# Altium schematic symbol library WPME-VDRM.SchLib: 11 symbols
Pins are listed as number, name and electrical type; pins without a type are passive.

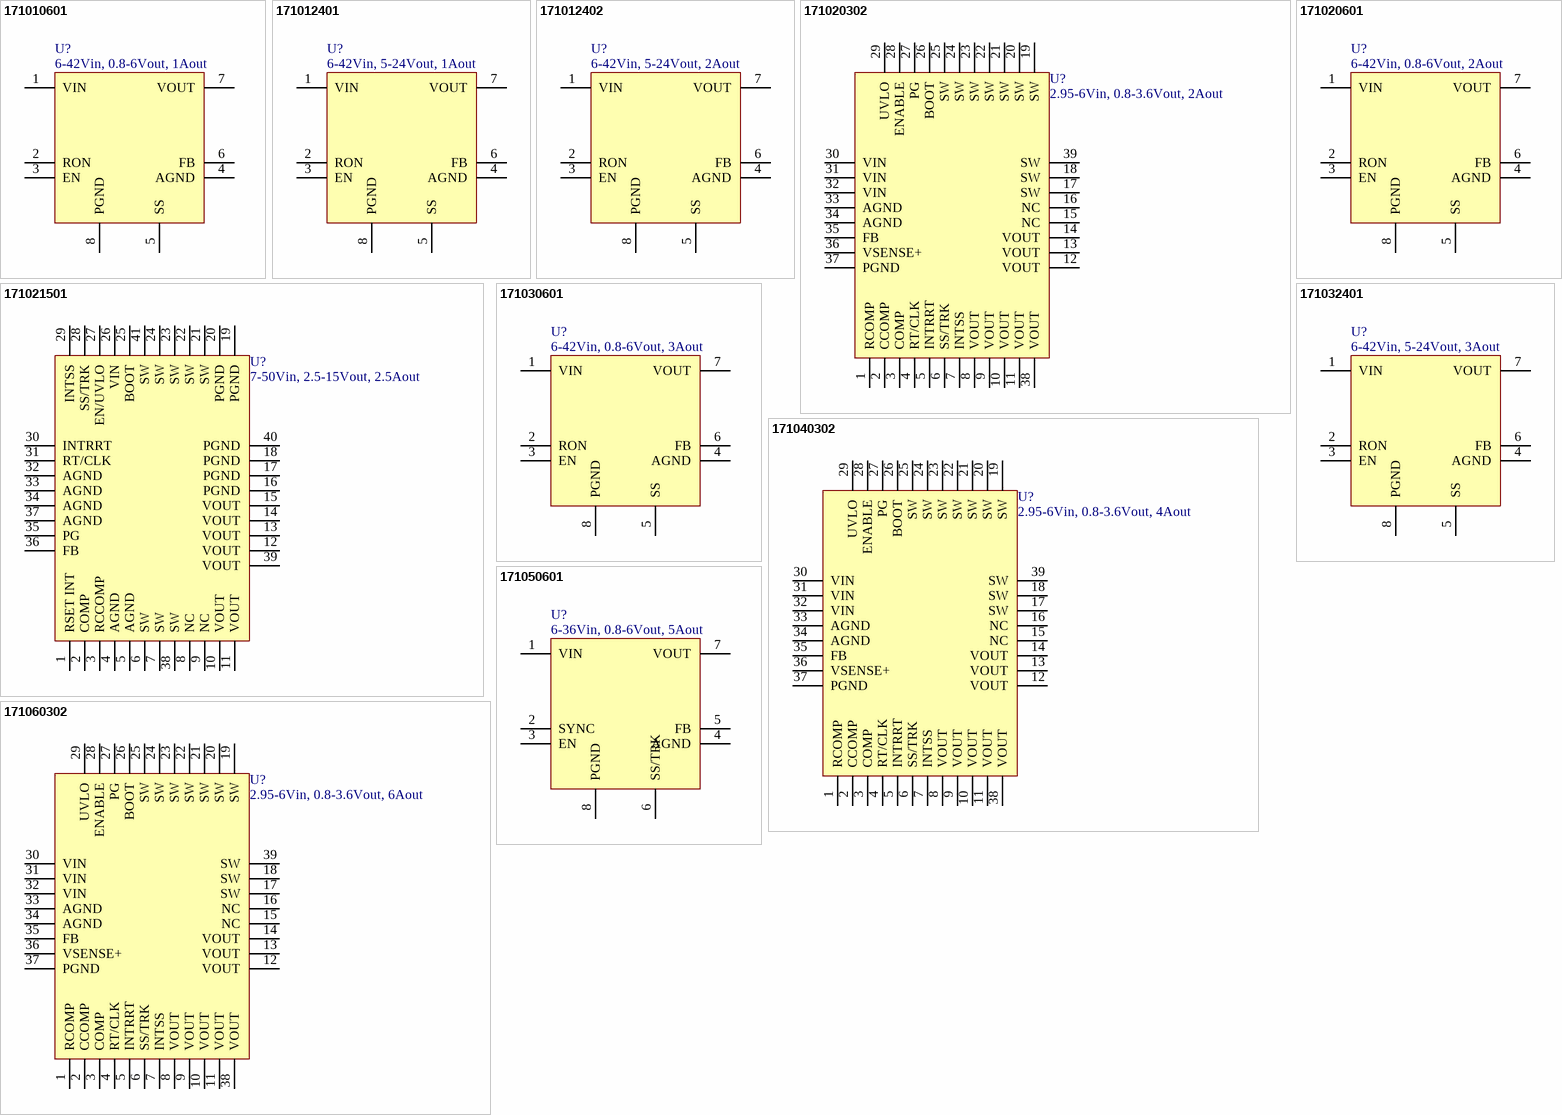
[diagram p0: symbols 171010601 to 171060302]

## 171010601
designator U?, comment 6-42Vin, 0.8-6Vout, 1Aout
WPME-VDRM Variable Step Down Regulator Module, SMT, TO263-7EP, 6-42Vin, 0.8-6Vout, 1Aout; Manufacturer Part Number: 171010601; Manufacturer: Wurth Elektronik; Input Voltage Min: 6V; Input Voltage Max: 42V; Output Current: 1A; Output Voltage Min: 0.8V; Category: Step Down Converter; Match Code: WPME-VDRM; ComponentLink1Description: Website Link; ComponentLink1URL: https://www.we-online.com/redexpert/article/171010601?ad; ComponentLink2Description: Datasheet Link; ComponentLink2URL: https://www.we-online.com/redexpert/spec/171010601?ad; Mount: Surface Mount; Min Operating Temperature: -40°C; Max Operating Temperature: 125°C; Packaging: Tape and Reel; Case/Size Code: TO263-7EP; Length: 13.77mm; Width: 10.16mm; Height: 4.57mm; Output Voltage Max: 6V
footprint WPME-VDRM_TO263-7EP
pins: 1 VIN, 2 RON, 3 EN, 4 AGND, 5 SS, 6 FB, 7 VOUT, 8 PGND

## 171012401
designator U?, comment 6-42Vin, 5-24Vout, 1Aout
WPME-VDRM Variable Step Down Regulator Module, SMT, TO263-7EP, 6-42Vin, 5-24Vout, 1Aout; Manufacturer Part Number: 171012401; Manufacturer: Wurth Elektronik; Input Voltage Min: 6V; Input Voltage Max: 42V; Output Current: 1A; Output Voltage Min: 5V; Output Voltage Max: 24V; Category: Step Down Converter; Match Code: WPME-VDRM; ComponentLink1Description: Website Link; ComponentLink1URL: https://www.we-online.com/redexpert/article/171012401?ad; ComponentLink2Description: Datasheet Link; ComponentLink2URL: https://www.we-online.com/redexpert/spec/171012401?ad; Mount: Surface Mount; Min Operating Temperature: -40°C; Max Operating Temperature: 125°C; Packaging: Tape and Reel; Case/Size Code: TO263-7EP; Length: 13.77mm; Width: 10.16mm; Height: 4.57mm
footprint WPME-VDRM_TO263-7EP
pins: 1 VIN, 2 RON, 3 EN, 4 AGND, 5 SS, 6 FB, 7 VOUT, 8 PGND

## 171012402
designator U?, comment 6-42Vin, 5-24Vout, 2Aout
WPME-VDRM Variable Step Down Regulator Module, SMT, TO263-7EP, 6-42Vin, 5-24Vout, 2Aout; Manufacturer Part Number: 171012402; Manufacturer: Wurth Elektronik; Input Voltage Min: 6V; Input Voltage Max: 42V; Output Current: 2A; Output Voltage Min: 5V; Output Voltage Max: 24V; Category: Step Down Converter; Match Code: WPME-VDRM; ComponentLink1Description: Website Link; ComponentLink1URL: https://www.we-online.com/redexpert/article/171012402?ad; ComponentLink2Description: Datasheet Link; ComponentLink2URL: https://www.we-online.com/redexpert/spec/171012402?ad; Mount: Surface Mount; Min Operating Temperature: -40°C; Max Operating Temperature: 125°C; Packaging: Tape and Reel; Case/Size Code: TO263-7EP; Length: 13.77mm; Width: 10.16mm; Height: 4.57mm
footprint WPME-VDRM_TO263-7EP
pins: 1 VIN, 2 RON, 3 EN, 4 AGND, 5 SS, 6 FB, 7 VOUT, 8 PGND

## 171020302
designator U?, comment 2.95-6Vin, 0.8-3.6Vout, 2Aout
WPME-VDRM Variable Step Down Regulator Module, SMT, BQFN-39, 2.95-6Vin, 0.8-3.6Vout, 2Aout; Manufacturer Part Number: 171020302; Manufacturer: Wurth Elektronik; Input Voltage Min: 2.95V; Input Voltage Max: 6V; Output Current: 2A; Output Voltage Min: 0.8V; Output Voltage Max: 3.6V; Category: Step Down Converter; Match Code: WPME-VDRM; ComponentLink1Description: Website Link; ComponentLink1URL: https://www.we-online.com/redexpert/article/171020302?ad; ComponentLink2Description: Datasheet Link; ComponentLink2URL: https://www.we-online.com/redexpert/spec/171020302?ad; Mount: Surface Mount; Min Operating Temperature: -40°C; Max Operating Temperature: 125°C; Packaging: Tape and Reel; Case/Size Code: BQFN-39; Length: 11mm; Width: 9mm; Height: 2.85mm
footprint WPME-VDRM_BQFN-39
pins: 1 RCOMP, 2 CCOMP, 3 COMP, 4 RT/CLK, 5 INTRRT, 6 SS/TRK, 7 INTSS, 8 VOUT, 9 VOUT, 10 VOUT, 11 VOUT, 12 VOUT, 13 VOUT, 14 VOUT, 15 NC, 16 NC, 17 SW, 18 SW, 19 SW, 20 SW, 21 SW, 22 SW, 23 SW, 24 SW, 25 SW, 26 BOOT, 27 PG, 28 ENABLE, 29 UVLO, 30 VIN, 31 VIN, 32 VIN, 33 AGND, 34 AGND, 35 FB, 36 VSENSE+, 37 PGND, 38 VOUT, 39 SW

## 171020601
designator U?, comment 6-42Vin, 0.8-6Vout, 2Aout
WPME-VDRM Variable Step Down Regulator Module, SMT, TO263-7EP, 6-42Vin, 0.8-6Vout, 2Aout; Manufacturer Part Number: 171020601; Manufacturer: Wurth Elektronik; Input Voltage Min: 6V; Input Voltage Max: 42V; Output Current: 2A; Output Voltage Min: 0.8V; Category: Step Down Converter; Match Code: WPME-VDRM; ComponentLink1Description: Website Link; ComponentLink1URL: https://www.we-online.com/redexpert/article/171020601?ad; ComponentLink2Description: Datasheet Link; ComponentLink2URL: https://www.we-online.com/redexpert/spec/171020601?ad; Mount: Surface Mount; Min Operating Temperature: -40°C; Max Operating Temperature: 125°C; Packaging: Tape and Reel; Case/Size Code: TO263-7EP; Length: 13.77mm; Width: 10.16mm; Height: 4.57mm; Output Voltage Max: 6V
footprint WPME-VDRM_TO263-7EP
pins: 1 VIN, 2 RON, 3 EN, 4 AGND, 5 SS, 6 FB, 7 VOUT, 8 PGND

## 171021501
designator U?, comment 7-50Vin, 2.5-15Vout, 2.5Aout
WPME-VDRM Variable Step Down Regulator Module, SMT, BQFN-41, 7-50Vin, 2.5-15Vout, 2.5Aout; Manufacturer Part Number: 171021501; Manufacturer: Wurth Elektronik; Input Voltage Min: 7V; Input Voltage Max: 50V; Output Current: 2.5A; Output Voltage Min: 2.5V; Output Voltage Max: 15V; Category: Step Down Converter; Match Code: WPME-VDRM; ComponentLink1Description: Website Link; ComponentLink1URL: https://www.we-online.com/redexpert/article/171021501?ad; ComponentLink2Description: Datasheet Link; ComponentLink2URL: https://www.we-online.com/redexpert/spec/171021501?ad; Mount: Surface Mount; Min Operating Temperature: -40°C; Max Operating Temperature: 125°C; Packaging: Tape and Reel; Case/Size Code: BQFN-41; Length: 11mm; Width: 9mm; Height: 2.8mm
footprint WPME-VDRM_BQFN-41
pins: 1 RSET INT, 2 COMP, 3 RCCOMP, 4 AGND, 5 AGND, 6 SW, 7 SW, 8 NC, 9 NC, 10 VOUT, 11 VOUT, 12 VOUT, 13 VOUT, 14 VOUT, 15 VOUT, 16 PGND, 17 PGND, 18 PGND, 19 PGND, 20 PGND, 21 SW, 22 SW, 23 SW, 24 SW, 25 BOOT, 26 VIN, 27 EN/UVLO, 28 SS/TRK, 29 INTSS, 30 INTRRT, 31 RT/CLK, 32 AGND, 33 AGND, 34 AGND, 35 PG, 36 FB, 37 AGND, 38 SW, 39 VOUT, 40 PGND, 41 SW

## 171030601
designator U?, comment 6-42Vin, 0.8-6Vout, 3Aout
WPME-VDRM Variable Step Down Regulator Module, SMT, TO263-7EP, 6-42Vin, 0.8-6Vout, 3Aout; Manufacturer Part Number: 171030601; Manufacturer: Wurth Elektronik; Input Voltage Min: 6V; Input Voltage Max: 42V; Output Current: 3A; Output Voltage Min: 0.8V; Category: Step Down Converter; Match Code: WPME-VDRM; ComponentLink1Description: Website Link; ComponentLink1URL: https://www.we-online.com/redexpert/article/171030601?ad; ComponentLink2Description: Datasheet Link; ComponentLink2URL: https://www.we-online.com/redexpert/spec/171030601?ad; Mount: Surface Mount; Operating Temperature Min: -40°C; Operating Temperature Max: 125°C; Packaging: Tape and Reel; Case/Size Code: TO263-7EP; Length: 13.77mm; Width: 10.16mm; Height: 4.57mm; Output Voltage Max: 6V
footprint WPME-VDRM_TO263-7EP
pins: 1 VIN, 2 RON, 3 EN, 4 AGND, 5 SS, 6 FB, 7 VOUT, 8 PGND

## 171032401
designator U?, comment 6-42Vin, 5-24Vout, 3Aout
WPME-VDRM Variable Step Down Regulator Module, SMT, TO263-7EP, 6-42Vin, 5-24Vout, 3Aout; Manufacturer Part Number: 171032401; Manufacturer: Wurth Elektronik; Input Voltage Min: 6V; Input Voltage Max: 42V; Output Current: 3A; Output Voltage Min: 5V; Output Voltage Max: 24V; Category: Step Down Converter; Match Code: WPME-VDRM; ComponentLink1Description: Website Link; ComponentLink1URL: https://www.we-online.com/redexpert/article/171032401?ad; ComponentLink2Description: Datasheet Link; ComponentLink2URL: https://www.we-online.com/redexpert/spec/171032401?ad; Mount: Surface Mount; Min Operating Temperature: -40°C; Max Operating Temperature: 125°C; Packaging: Tape and Reel; Case/Size Code: TO263-7EP; Length: 13.77mm; Width: 10.16mm; Height: 4.57mm
footprint WPME-VDRM_TO263-7EP
pins: 1 VIN, 2 RON, 3 EN, 4 AGND, 5 SS, 6 FB, 7 VOUT, 8 PGND

## 171040302
designator U?, comment 2.95-6Vin, 0.8-3.6Vout, 4Aout
WPME-VDRM Variable Step Down Regulator Module, SMT, BQFN-39, 2.95-6Vin, 0.8-3.6Vout, 4Aout; Manufacturer Part Number: 171040302; Manufacturer: Wurth Elektronik; Input Voltage Min: 2.95V; Input Voltage Max: 6V; Output Current: 4A; Output Voltage Min: 0.8V; Output Voltage Max: 3.6V; Category: Step Down Converter; Match Code: WPME-VDRM; ComponentLink1Description: Website Link; ComponentLink1URL: https://www.we-online.com/redexpert/article/171040302?ad; ComponentLink2Description: Datasheet Link; ComponentLink2URL: https://www.we-online.com/redexpert/spec/171040302?ad; Mount: Surface Mount; Min Operating Temperature: -40°C; Max Operating Temperature: 125°C; Packaging: Tape and Reel; Case/Size Code: BQFN-39; Length: 11mm; Width: 9mm; Height: 2.85mm
footprint WPME-VDRM_BQFN-39
pins: 1 RCOMP, 2 CCOMP, 3 COMP, 4 RT/CLK, 5 INTRRT, 6 SS/TRK, 7 INTSS, 8 VOUT, 9 VOUT, 10 VOUT, 11 VOUT, 12 VOUT, 13 VOUT, 14 VOUT, 15 NC, 16 NC, 17 SW, 18 SW, 19 SW, 20 SW, 21 SW, 22 SW, 23 SW, 24 SW, 25 SW, 26 BOOT, 27 PG, 28 ENABLE, 29 UVLO, 30 VIN, 31 VIN, 32 VIN, 33 AGND, 34 AGND, 35 FB, 36 VSENSE+, 37 PGND, 38 VOUT, 39 SW

## 171050601
designator U?, comment 6-36Vin, 0.8-6Vout, 5Aout
WPME-VDRM Variable Step Down Regulator Module, SMT, TO263-7EP, 6-36Vin, 0.8-6Vout, 5Aout; Manufacturer Part Number: 171050601; Manufacturer: Wurth Elektronik; Input Voltage Min: 6V; Input Voltage Max: 36V; Output Current: 5A; Output Voltage Min: 0.8V; Category: Step Down Converter; Match Code: WPME-VDRM; ComponentLink1Description: Website Link; ComponentLink1URL: https://www.we-online.com/redexpert/article/171050601?ad; ComponentLink2Description: Datasheet Link; ComponentLink2URL: https://www.we-online.com/redexpert/spec/171050601?ad; Mount: Surface Mount; Min Operating Temperature: -40°C; Max Operating Temperature: 125°C; Packaging: Tape and Reel; Case/Size Code: TO263-7EP; Length: 13.77mm; Width: 10.16mm; Height: 4.57mm; Output Voltage Max: 6V
footprint WPME-VDRM_TO263-7EP
pins: 1 VIN, 2 SYNC, 3 EN, 4 AGND, 5 FB, 6 SS/TRK, 7 VOUT, 8 PGND

## 171060302
designator U?, comment 2.95-6Vin, 0.8-3.6Vout, 6Aout
WPME-VDRM Variable Step Down Regulator Module, SMT, BQFN-39, 2.95-6Vin, 0.8-3.6Vout, 6Aout; Manufacturer Part Number: 171060302; Manufacturer: Wurth Elektronik; Input Voltage Min: 2.95V; Input Voltage Max: 6V; Output Current: 6A; Output Voltage Min: 0.8V; Output Voltage Max: 3.6V; Category: Step Down Converter; Match Code: WPME-VDRM; ComponentLink1Description: Website Link; ComponentLink1URL: https://www.we-online.com/redexpert/article/171060302?ad; ComponentLink2Description: Datasheet Link; ComponentLink2URL: https://www.we-online.com/redexpert/spec/171060302?ad; Mount: Surface Mount; Min Operating Temperature: -40°C; Max Operating Temperature: 125°C; Packaging: Tape and Reel; Case/Size Code: BQFN-39; Length: 11mm; Width: 9mm; Height: 2.85mm
footprint WPME-VDRM_BQFN-39
pins: 1 RCOMP, 2 CCOMP, 3 COMP, 4 RT/CLK, 5 INTRRT, 6 SS/TRK, 7 INTSS, 8 VOUT, 9 VOUT, 10 VOUT, 11 VOUT, 12 VOUT, 13 VOUT, 14 VOUT, 15 NC, 16 NC, 17 SW, 18 SW, 19 SW, 20 SW, 21 SW, 22 SW, 23 SW, 24 SW, 25 SW, 26 BOOT, 27 PG, 28 ENABLE, 29 UVLO, 30 VIN, 31 VIN, 32 VIN, 33 AGND, 34 AGND, 35 FB, 36 VSENSE+, 37 PGND, 38 VOUT, 39 SW